# Altium schematic symbol library SCH - LED - BRIGHT LED BL-HBGGAJA32.SCHLIB: 1 symbol
Pins are listed as number, name and electrical type; pins without a type are passive.

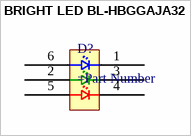
[diagram p0: symbol BRIGHT LED BL-HBGGAJA32]

## BRIGHT LED BL-HBGGAJA32
designator D?
pins: 1 BC, 2 GA, 3 GC, 4 RC, 5 RA, 6 BA